# EAGLE library part MPX_STECKER (library ++Bedrahtet)
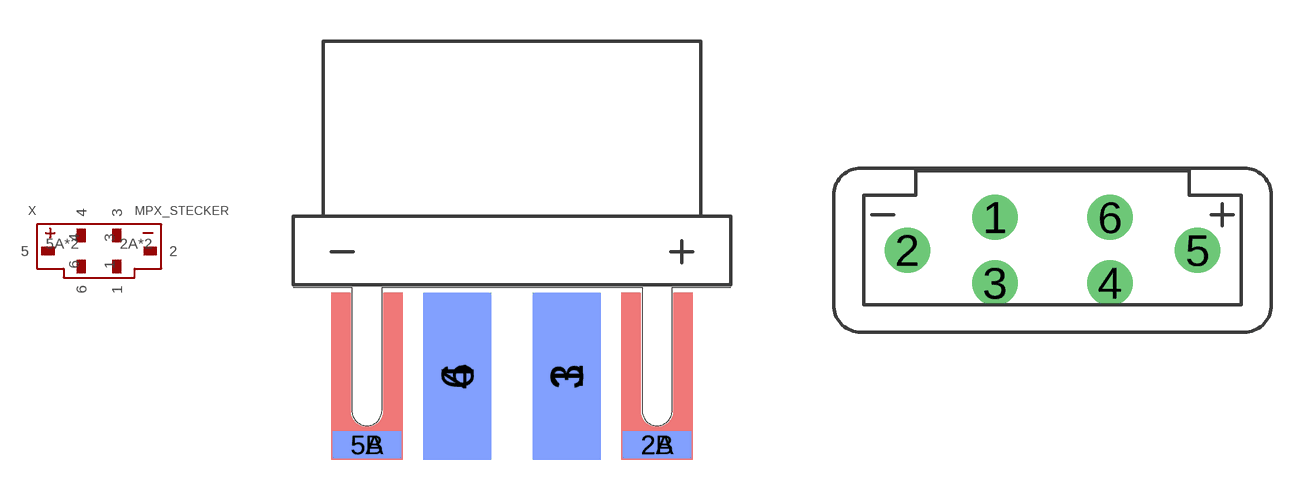
[diagram p27: symbol with the pads of MPX_STECKER_PLATINENRAND; footprints MPX_STECKER_PLATINENRAND, MPX_STECKER_STEHEND]

Designator prefix X

## MPX_STECKER'PLATINENRAND'  [MPX_STECKER_PLATINENRAND]
1  1
2A  2
2B  2
3  3
4  4
5A  5
5B  5
6  6

## MPX_STECKER'STEHEND'  [MPX_STECKER_STEHEND]
1  1
2  2
3  3
4  4
5  5
6  6

## Footprint MPX_STECKER_PLATINENRAND (pad centres in mm)
smd 2.5 x 6.1: 1 2,-3.25; 6 -2,-3.25
smd 2.5 x 1: 2A 5.3,-5.75; 5A -5.3,-5.75
smd 2.5 x 1 bottom: 2B 5.3,-5.75; 5B -5.3,-5.75
smd 2.5 x 6.1 bottom: 3 2,-3.25; 4 -2,-3.25

## Footprint MPX_STECKER_STEHEND (pad centres in mm)
drill 1.1: 1 -2.1,1.2; 2 -5.3,0; 3 -2.1,-1.2; 4 2.1,-1.2; 5 5.3,0; 6 2.1,1.2